# EAGLE library part TM4C129ENCPDT (library Cynara-IntegratedCircuits)
Tiva TM4C129ENCPDT Microcontroller
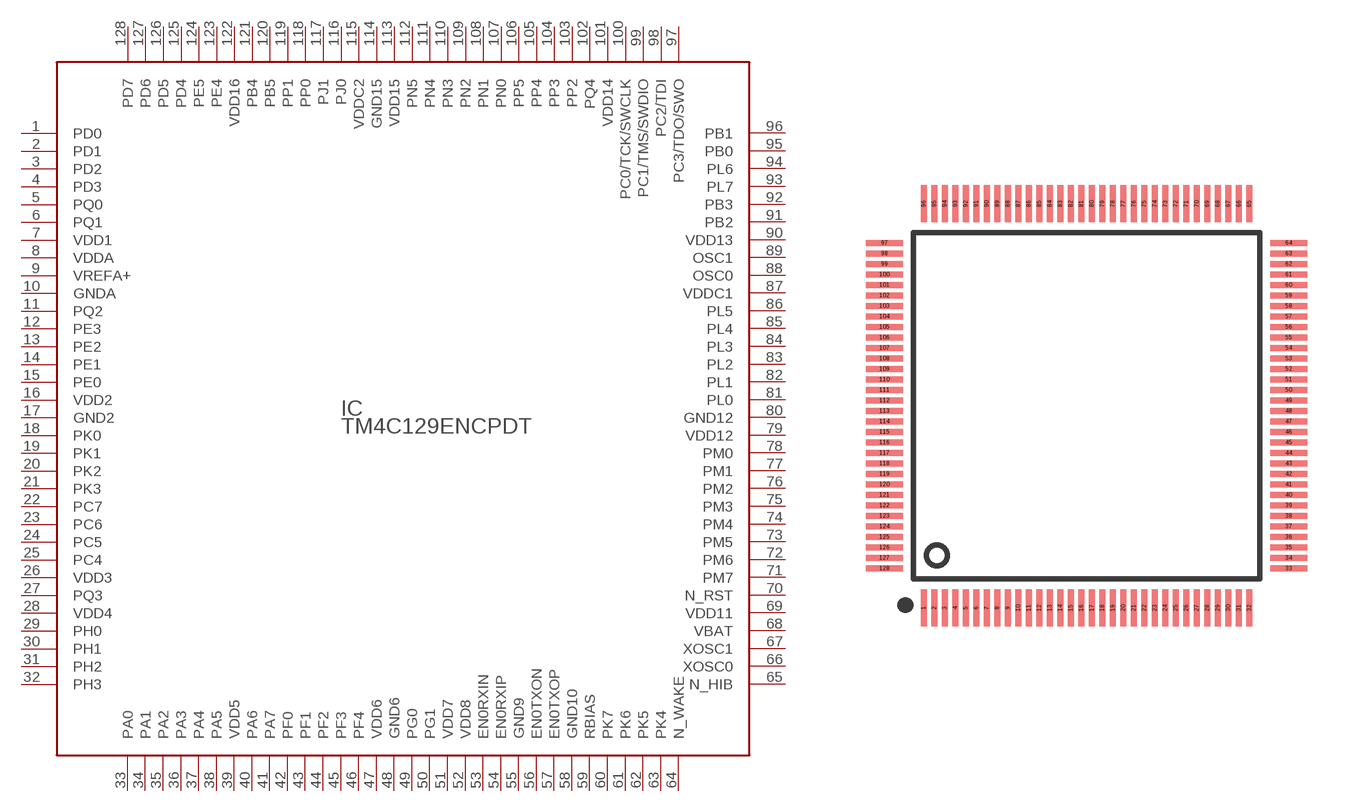
[diagram p3: symbol with the pads of S-PQFP-G128; footprint S-PQFP-G128]

Designator prefix IC

## TM4C129ENCPDT-128TQFP  [S-PQFP-G128]
1  PD0
2  PD1
3  PD2
4  PD3
5  PQ0
6  PQ1
7  VDD1  pwr
8  VDDA  pwr
9  VREFA+  pwr
10  GNDA  pwr
11  PQ2
12  PE3
13  PE2
14  PE1
15  PE0
16  VDD2  pwr
17  GND2  pwr
18  PK0
19  PK1
20  PK2
21  PK3
22  PC7
23  PC6
24  PC5
25  PC4
26  VDD3  pwr
27  PQ3
28  VDD4  pwr
29  PH0
30  PH1
31  PH2
32  PH3
33  PA0
34  PA1
35  PA2
36  PA3
37  PA4
38  PA5
39  VDD5  pwr
40  PA6
41  PA7
42  PF0
43  PF1
44  PF2
45  PF3
46  PF4
47  VDD6  pwr
48  GND6  pwr
49  PG0
50  PG1
51  VDD7  pwr
52  VDD8  pwr
53  EN0RXIN
54  EN0RXIP
55  GND9  pwr
56  EN0TXON
57  EN0TXOP
58  GND10  pwr
59  RBIAS
60  PK7
61  PK6
62  PK5
63  PK4
64  N_WAKE
65  N_HIB
66  XOSC0
67  XOSC1
68  VBAT  pwr
69  VDD11  pwr
70  N_RST
71  PM7
72  PM6
73  PM5
74  PM4
75  PM3
76  PM2
77  PM1
78  PM0
79  VDD12  pwr
80  GND12  pwr
81  PL0
82  PL1
83  PL2
84  PL3
85  PL4
86  PL5
87  VDDC1  pwr
88  OSC0
89  OSC1
90  VDD13  pwr
91  PB2
92  PB3
93  PL7
94  PL6
95  PB0
96  PB1
97  PC3/TDO/SWO
98  PC2/TDI
99  PC1/TMS/SWDIO
100  PC0/TCK/SWCLK
101  VDD14  pwr
102  PQ4
103  PP2
104  PP3
105  PP4
106  PP5
107  PN0
108  PN1
109  PN2
110  PN3
111  PN4
112  PN5
113  VDD15  pwr
114  GND15  pwr
115  VDDC2  pwr
116  PJ0
117  PJ1
118  PP0
119  PP1
120  PB5
121  PB4
122  VDD16  pwr
123  PE4
124  PE5
125  PD4
126  PD5
127  PD6
128  PD7

## Footprint S-PQFP-G128 (pad centres in mm)
smd 0.24 x 1.4: 1 -6.2,-7.7; 2 -5.8,-7.7; 3 -5.4,-7.7; 4 -5,-7.7; 5 -4.6,-7.7; 6 -4.2,-7.7; 7 -3.8,-7.7; 8 -3.4,-7.7; 9 -3,-7.7; 10 -2.6,-7.7; 11 -2.2,-7.7; 12 -1.8,-7.7; 13 -1.4,-7.7; 14 -1,-7.7; 15 -0.6,-7.7; 16 -0.2,-7.7; 17 0.2,-7.7; 18 0.6,-7.7; 19 1,-7.7; 20 1.4,-7.7; 21 1.8,-7.7; 22 2.2,-7.7; 23 2.6,-7.7; 24 3,-7.7; 25 3.4,-7.7; 26 3.8,-7.7; 27 4.2,-7.7; 28 4.6,-7.7; 29 5,-7.7; 30 5.4,-7.7; 31 5.8,-7.7; 32 6.2,-7.7; 65 6.2,7.7; 66 5.8,7.7; 67 5.4,7.7; 68 5,7.7; 69 4.6,7.7; 70 4.2,7.7; 71 3.8,7.7; 72 3.4,7.7; 73 3,7.7; 74 2.6,7.7; 75 2.2,7.7; 76 1.8,7.7; 77 1.4,7.7; 78 1,7.7; 79 0.6,7.7; 80 0.2,7.7; 81 -0.2,7.7; 82 -0.6,7.7; 83 -1,7.7; 84 -1.4,7.7; 85 -1.8,7.7; 86 -2.2,7.7; 87 -2.6,7.7; 88 -3,7.7; 89 -3.4,7.7; 90 -3.8,7.7; 91 -4.2,7.7; 92 -4.6,7.7; 93 -5,7.7; 94 -5.4,7.7; 95 -5.8,7.7; 96 -6.2,7.7
smd 1.4 x 0.24: 33 7.7,-6.2; 34 7.7,-5.8; 35 7.7,-5.4; 36 7.7,-5; 37 7.7,-4.6; 38 7.7,-4.2; 39 7.7,-3.8; 40 7.7,-3.4; 41 7.7,-3; 42 7.7,-2.6; 43 7.7,-2.2; 44 7.7,-1.8; 45 7.7,-1.4; 46 7.7,-1; 47 7.7,-0.6; 48 7.7,-0.2; 49 7.7,0.2; 50 7.7,0.6; 51 7.7,1; 52 7.7,1.4; 53 7.7,1.8; 54 7.7,2.2; 55 7.7,2.6; 56 7.7,3; 57 7.7,3.4; 58 7.7,3.8; 59 7.7,4.2; 60 7.7,4.6; 61 7.7,5; 62 7.7,5.4; 63 7.7,5.8; 64 7.7,6.2; 97 -7.7,6.2; 98 -7.7,5.8; 99 -7.7,5.4; 100 -7.7,5; 101 -7.7,4.6; 102 -7.7,4.2; 103 -7.7,3.8; 104 -7.7,3.4; 105 -7.7,3; 106 -7.7,2.6; 107 -7.7,2.2; 108 -7.7,1.8; 109 -7.7,1.4; 110 -7.7,1; 111 -7.7,0.6; 112 -7.7,0.2; 113 -7.7,-0.2; 114 -7.7,-0.6; 115 -7.7,-1; 116 -7.7,-1.4; 117 -7.7,-1.8; 118 -7.7,-2.2; 119 -7.7,-2.6; 120 -7.7,-3; 121 -7.7,-3.4; 122 -7.7,-3.8; 123 -7.7,-4.2; 124 -7.7,-4.6; 125 -7.7,-5; 126 -7.7,-5.4; 127 -7.7,-5.8; 128 -7.7,-6.2